# EAGLE library part BT111-VISUAL (library sf-bluegiga)
Bluetooth Smart Ready (dual-mode) USB HCI module - Bluetooth 4.0. BT111-A variant has an on-module ceramic chip antenna. BT111-A variant includes keepout/restrict area. Antenna edge of the module should be flush up against the edge of the PCB. See datasheet for variant layout details. The BT111 is a low cost and ultra small Bluetooth Smart Ready HCI module designed for applications where both Bluetooth classic and Bluetooth low energy connectivity are needed. The BT111 integrates a Bluetooth 4.0 dual mode radio, HCI software stack, USB interface and an antenna. It is compatible with Windows and Linux operating systems and Microsoft and BlueZ Bluetooth stacks and offers OEMs a fast and risk-free way to integrate Bluetooth 4.0 connectivity into their applications. http://www.bluegiga.com/en-US/products/bluetooth-4.0-modules/bt111-bluetooth--smart-ready-hci https://github.com/jrowberg/sf-oshw Last updated 2014-01-04 by Jeff Rowberg <jeff@rowberg.net>
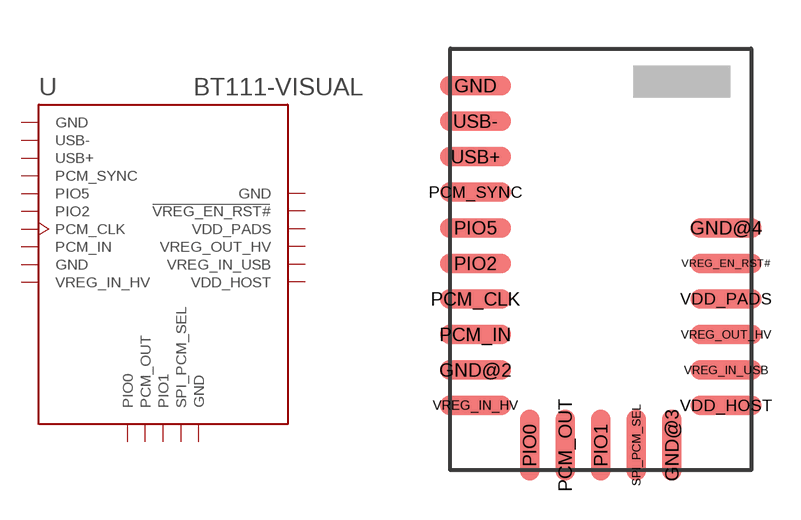
[diagram p24: symbol with the pads of BT111-A; footprint BT111-A]

Designator prefix U

## BT111-VISUAL-A  [BT111-A]
GND  GND  pwr
GND@2  GND  pwr
GND@3  GND  pwr
GND@4  GND  pwr
PCM_CLK  PCM_CLK
PCM_IN  PCM_IN  in
PCM_OUT  PCM_OUT  out
PCM_SYNC  PCM_SYNC
PIO0  PIO0
PIO1  PIO1
PIO2  PIO2
PIO5  PIO5
SPI_PCM_SEL  SPI_PCM_SEL  in
USB+  USB+
USB-  USB-
VDD_HOST  VDD_HOST  pwr
VDD_PADS  VDD_PADS  pwr
VREG_EN_RST#  VREG_EN_RST#  in
VREG_IN_HV  VREG_IN_HV  pwr
VREG_IN_USB  VREG_IN_USB  pwr
VREG_OUT_HV  VREG_OUT_HV  pwr

## Footprint BT111-A (pad centres in mm)
Bluetooth Smart Ready (dual-mode) USB HCI module - Bluetooth 4.0. BT111-A variant has an on-module ceramic chip antenna. BT111-A variant includes keepout/restrict area. Antenna edge of the module should be flush up against the edge of the PCB. See datasheet for variant layout details. The BT111 is a low cost and ultra small Bluetooth Smart Ready HCI module designed for applications where both Bluetooth classic and Bluetooth low energy connectivity are needed. The BT111 integrates a Bluetooth 4.0 dual mode radio, HCI software stack, USB interface and an antenna. It is compatible with Windows and Linux operating systems and Microsoft and BlueZ Bluetooth stacks and offers OEMs a fast and risk-free way to integrate Bluetooth 4.0 connectivity into their applications. http://www.bluegiga.com/en-US/products/bluetooth-4.0-modules/bt111-bluetooth--smart-ready-hci https://github.com/jrowberg/sf-oshw Last updated 2014-01-04 by Jeff Rowberg <jeff@rowberg.net>
smd 2.2 x 0.6: GND -3.875,5.375; GND@2 -3.875,-3.425; GND@4 3.875,0.975; PCM_CLK -3.875,-1.225; PCM_IN -3.875,-2.325; PCM_SYNC -3.875,2.075; PIO2 -3.875,-0.125; PIO5 -3.875,0.975; USB+ -3.875,3.175; USB- -3.875,4.275; VDD_HOST 3.875,-4.525; VDD_PADS 3.875,-1.225; VREG_EN_RST# 3.875,-0.125; VREG_IN_HV -3.875,-4.525; VREG_IN_USB 3.875,-3.425; VREG_OUT_HV 3.875,-2.325
smd 0.6 x 2.2: GND@3 2.2,-5.75; PCM_OUT -1.1,-5.75; PIO0 -2.2,-5.75; PIO1 0,-5.75; SPI_PCM_SEL 1.1,-5.75